# EAGLE library part LORA02 (library LoRa-02)
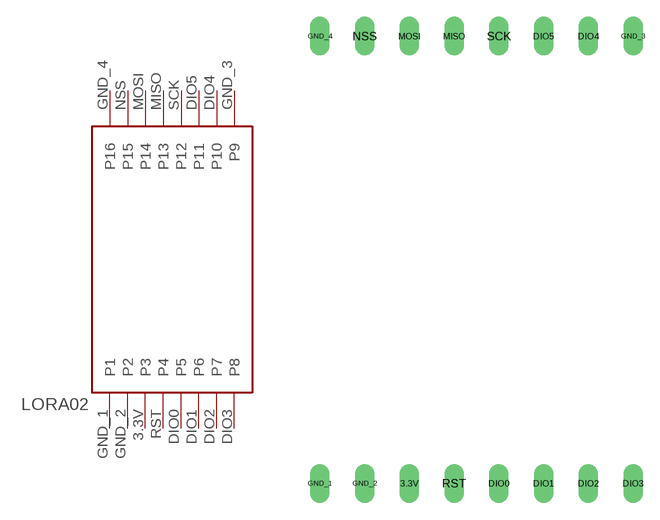
[diagram p0: symbol with the pads of LORA; footprint LORA]

Designator prefix IC

## LORA02  [LORA]
3.3V  P3
DIO0  P5
DIO1  P6
DIO2  P7
DIO3  P8
DIO4  P10
DIO5  P11
GND_1  P1
GND_2  P2
GND_3  P9
GND_4  P16
MISO  P13
MOSI  P14
NSS  P15
RST  P4
SCK  P12

## Footprint LORA (pad centres in mm)
drill 0.6 long: 3.3V -10.16,-5.08; DIO0 -5.08,-5.08; DIO1 -2.54,-5.08; DIO2 0,-5.08; DIO3 2.54,-5.08; DIO4 0,20.32; DIO5 -2.54,20.32; GND_1 -15.24,-5.08; GND_2 -12.7,-5.08; GND_3 2.54,20.32; GND_4 -15.24,20.32; MISO -7.62,20.32; MOSI -10.16,20.32; NSS -12.7,20.32; RST -7.62,-5.08; SCK -5.08,20.32